# Altium footprint library pins.PcbLib: 69 footprints (part 4 of 5)
Each footprint in its own frame and in the unit in brackets; x right, y up, seen from the top. Pads: shape width x height; smd on the part's side, far side on the other; paste and mask are expansions set on the pad; w line width, h text height; cw(c..) or ccw(c..) is an arc to the next point about the centre after c.
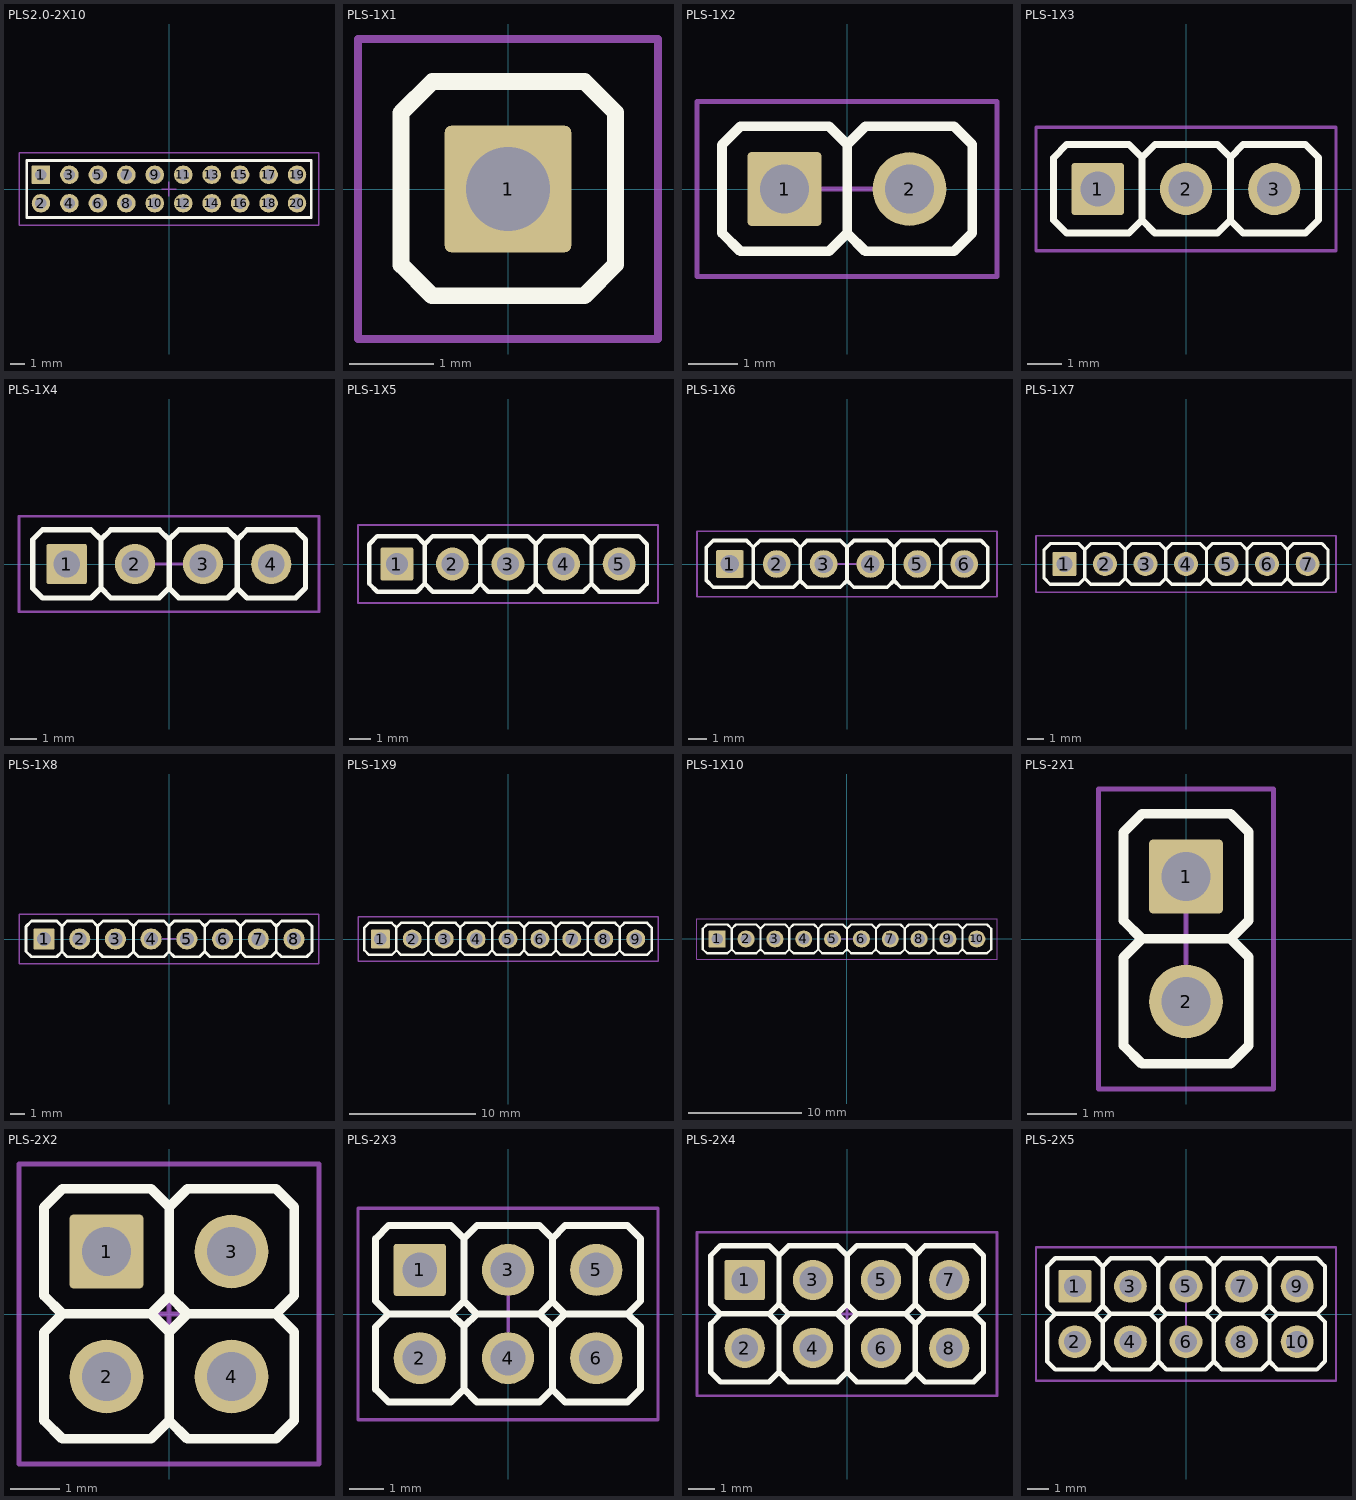
[diagram p3: the footprints below, top view; thin cyan lines are the x and y axes]

## PLS2.0-2X10 [mm]
pads (20):
  rrect10% 1.3x1.3 hole 0.8: 1(-9,1)
  round 1.3 hole 0.8: 2(-9,-1) 3(-7,1) 4(-7,-1) 5(-5,1) 6(-5,-1) 7(-3,1) 8(-3,-1) 9(-1,1) 10(-1,-1) 11(1,1) 12(1,-1) 13(3,1) 14(3,-1) 15(5,1) 16(5,-1) 17(7,1) 18(7,-1) 19(9,1) 20(9,-1)
Top Overlay:
  lines w0.2: -10,-2 -10,2 10,2 10,-2 -10,-2
Mechanical 13:
  lines w0.1: -10.541,-2.54 -10.541,2.54 10.541,2.54 10.541,-2.54 -10.541,-2.54
  text ".Designator" at -1.016,-0.762 h1.5
Mechanical 15:
  lines w0.05: -10.541,-2.54 -10.541,2.54 10.541,2.54 10.541,-2.54 -10.541,-2.54
  lines w0.1: -0.5,0 0.5,0 ; 0,-0.5 0,0.5
3D body: height 1, standoff 0, extent -10,-2 10,0
3D body: height 6.5, standoff -2.7, extent 8.746,0.746 9.254,1.254
3D body: height 6.5, standoff -2.7, extent 6.746,0.746 7.254,1.254
3D body: height 6.5, standoff -2.7, extent 4.746,0.746 5.254,1.254
3D body: height 6.5, standoff -2.7, extent 2.746,0.746 3.254,1.254
3D body: height 6.5, standoff -2.7, extent 0.746,0.746 1.254,1.254
3D body: height 6.5, standoff -2.7, extent -1.254,0.746 -0.746,1.254
3D body: height 6.5, standoff -2.7, extent -3.254,0.746 -2.746,1.254
3D body: height 6.5, standoff -2.7, extent -5.254,0.746 -4.746,1.254
3D body: height 6.5, standoff -2.7, extent -7.254,0.746 -6.746,1.254
3D body: height 6.5, standoff -2.7, extent -9.254,0.746 -8.746,1.254
3D body: height 1, standoff 0, extent -10,0 10,2
3D body: height 6.5, standoff -2.7, extent -9.254,-1.254 -8.746,-0.746
3D body: height 6.5, standoff -2.7, extent -7.254,-1.254 -6.746,-0.746
3D body: height 6.5, standoff -2.7, extent -5.254,-1.254 -4.746,-0.746
3D body: height 6.5, standoff -2.7, extent -3.254,-1.254 -2.746,-0.746
3D body: height 6.5, standoff -2.7, extent -1.254,-1.254 -0.746,-0.746
3D body: height 6.5, standoff -2.7, extent 0.746,-1.254 1.254,-0.746
3D body: height 6.5, standoff -2.7, extent 2.746,-1.254 3.254,-0.746
3D body: height 6.5, standoff -2.7, extent 4.746,-1.254 5.254,-0.746
3D body: height 6.5, standoff -2.7, extent 6.746,-1.254 7.254,-0.746
3D body: height 6.5, standoff -2.7, extent 8.746,-1.254 9.254,-0.746

## PLS-1X1 [mm]
pads (1):
  rrect10% 1.5x1.5 hole 1: 1(0,0)
Top Overlay:
  lines w0.2: -1.27,-0.9 -1.27,0.9 ; -1.27,-0.895 -0.9,-1.265 0.905,-1.265 1.275,-0.895 1.275,0.905 0.905,1.275 -0.895,1.275 -1.265,0.905
Mechanical 13:
  lines w0.1: -1.778,-1.778 -1.778,1.778 1.778,1.778 1.778,-1.778 -1.778,-1.778
  text ".Designator" at -1.016,-0.762 h1.5
Mechanical 15:
  lines w0.05: -1.778,-1.778 1.778,-1.778 1.778,1.778 -1.778,1.778 -1.778,-1.778
  lines w0.1: -0.498,0.005 0.502,0.005 ; 0.002,-0.495 0.002,0.505
3D body: height 8.5, standoff -3, extent -0.254,-0.254 0.254,0.254
3D body: height 2, standoff 0, extent -1.27,-1.265 1.275,1.275

## PLS-1X2 [mm]
pads (2):
  rrect10% 1.5x1.5 hole 1: 1(-1.27,0)
  round 1.5 hole 1: 2(1.27,0)
Top Overlay:
  lines w0.2: -2.54,-0.9 -2.54,0.9 ; -2.54,-0.895 -2.17,-1.265 -0.365,-1.265 0.005,-0.895 0.005,0.905 ; -2.535,0.905 -2.165,1.275 -0.365,1.275 0.005,0.905 ; 0,-0.895 0.37,-1.265 2.175,-1.265 2.545,-0.895 2.545,0.905 2.175,1.275 0.375,1.275 0.005,0.905
Mechanical 13:
  lines w0.1: -3.048,-1.778 3.048,-1.778 3.048,1.778 -3.048,1.778 -3.048,-1.778
  text ".Designator" at -1.016,-0.762 h1.5
Mechanical 15:
  lines w0.05: -3.048,-1.778 3.048,-1.778 3.048,1.778 -3.048,1.778 -3.048,-1.778
  lines w0.1: -0.495,0 0.505,0 ; 0.005,-0.5 0.005,0.5
3D body: height 2, standoff 0, extent 0,-1.265 2.545,1.275
3D body: height 2, standoff 0, extent -2.54,-1.265 0.005,1.275
3D body: height 8.5, standoff -3, extent -1.524,-0.254 -1.016,0.254
3D body: height 8.5, standoff -3, extent 1.016,-0.254 1.524,0.254

## PLS-1X3 [mm]
pads (3):
  rrect10% 1.5x1.5 hole 1: 1(-2.54,0)
  round 1.5 hole 1: 2(0,0) 3(2.54,0)
Top Overlay:
  lines w0.2: -3.81,-0.9 -3.81,0.9 ; -3.81,-0.895 -3.44,-1.265 -1.635,-1.265 -1.265,-0.895 -1.265,0.905 ; -3.805,0.905 -3.435,1.275 -1.635,1.275 -1.265,0.905 ; -1.27,-0.895 -0.9,-1.265 0.905,-1.265 1.275,-0.895 1.275,0.905 ; 1.27,-0.895 1.64,-1.265 3.445,-1.265 3.815,-0.895 3.815,0.905 3.445,1.275 1.645,1.275 1.275,0.905 ; -1.265,0.905 -0.895,1.275 0.905,1.275 1.275,0.905
Mechanical 13:
  lines w0.1: -4.318,-1.778 4.318,-1.778 4.318,1.778 -4.318,1.778 -4.318,-1.778
  text ".Designator" at -0.889,-0.762 h1.5
Mechanical 15:
  lines w0.05: -4.318,-1.778 4.318,-1.778 4.318,1.778 -4.318,1.778 -4.318,-1.778
  lines w0.1: -0.498,0.005 0.502,0.005 ; 0.002,-0.495 0.002,0.505
3D body: height 2, standoff 0, extent 1.27,-1.265 3.815,1.275
3D body: height 2, standoff 0, extent -1.27,-1.265 1.275,1.275
3D body: height 2, standoff 0, extent -3.81,-1.265 -1.265,1.275
3D body: height 8.5, standoff -3, extent 2.286,-0.254 2.794,0.254
3D body: height 8.5, standoff -3, extent -0.254,-0.254 0.254,0.254
3D body: height 8.5, standoff -3, extent -2.794,-0.254 -2.286,0.254

## PLS-1X4 [mm]
pads (4):
  rrect10% 1.5x1.5 hole 1: 1(-3.81,0)
  round 1.5 hole 1: 2(-1.27,0) 3(1.27,0) 4(3.81,0)
Top Overlay:
  lines w0.2: -5.08,-0.9 -5.08,0.9 ; -5.08,-0.895 -4.71,-1.265 -2.905,-1.265 -2.535,-0.895 -2.535,0.905 ; -5.075,0.905 -4.705,1.275 -2.905,1.275 -2.535,0.905 ; -2.54,-0.895 -2.17,-1.265 -0.365,-1.265 0.005,-0.895 0.005,0.905 ; 0,-0.895 0.37,-1.265 2.175,-1.265 2.545,-0.895 2.545,0.905 ; 2.54,-0.895 2.91,-1.265 4.715,-1.265 5.085,-0.895 5.085,0.905 4.715,1.275 2.915,1.275 2.545,0.905 ; -2.535,0.905 -2.165,1.275 -0.365,1.275 0.005,0.905 ; 0.005,0.905 0.375,1.275 2.175,1.275 2.545,0.905
Mechanical 13:
  lines w0.1: -5.588,-1.778 5.588,-1.778 5.588,1.778 -5.588,1.778 -5.588,-1.778
  text ".Designator" at -0.889,-0.762 h1.5
Mechanical 15:
  lines w0.05: -5.588,-1.778 5.588,-1.778 5.588,1.778 -5.588,1.778 -5.588,-1.778
  lines w0.1: -0.5,0.002 0.5,0.002 ; 0,-0.498 0,0.502
3D body: height 8.5, standoff -3, extent -4.064,-0.254 -3.556,0.254
3D body: height 8.5, standoff -3, extent -1.524,-0.254 -1.016,0.254
3D body: height 8.5, standoff -3, extent 1.016,-0.254 1.524,0.254
3D body: height 8.5, standoff -3, extent 3.556,-0.254 4.064,0.254
3D body: height 2, standoff 0, extent -2.54,-1.265 0.005,1.275
3D body: height 2, standoff 0, extent -5.08,-1.265 -2.535,1.275
3D body: height 2, standoff 0, extent 0,-1.265 2.545,1.275
3D body: height 2, standoff 0, extent 2.54,-1.265 5.085,1.275

## PLS-1X5 [mm]
pads (5):
  rrect10% 1.5x1.5 hole 1: 1(-5.08,0)
  round 1.5 hole 1: 2(-2.54,0) 3(0,0) 4(2.54,0) 5(5.08,0)
Top Overlay:
  lines w0.2: -6.35,-0.9 -6.35,0.9 ; -6.35,-0.895 -5.98,-1.265 -4.175,-1.265 -3.805,-0.895 -3.805,0.905 ; -6.345,0.905 -5.975,1.275 -4.175,1.275 -3.805,0.905 ; -3.81,-0.895 -3.44,-1.265 -1.635,-1.265 -1.265,-0.895 -1.265,0.905 ; -1.27,-0.895 -0.9,-1.265 0.905,-1.265 1.275,-0.895 1.275,0.905 ; 1.27,-0.895 1.64,-1.265 3.445,-1.265 3.815,-0.895 3.815,0.905 ; 3.81,-0.895 4.18,-1.265 5.985,-1.265 6.355,-0.895 6.355,0.905 5.985,1.275 4.185,1.275 3.815,0.905 ; -3.805,0.905 -3.435,1.275 -1.635,1.275 -1.265,0.905 ; -1.265,0.905 -0.895,1.275 0.905,1.275 1.275,0.905 ; 1.275,0.905 1.645,1.275 3.445,1.275 3.815,0.905
Mechanical 13:
  lines w0.1: -6.858,-1.778 -6.858,1.778 6.858,1.778 6.858,-1.778 -6.858,-1.778
  text ".Designator" at -0.889,-0.762 h1.5
Mechanical 15:
  lines w0.05: -6.858,-1.778 -6.858,1.778 6.858,1.778 6.858,-1.778 -6.858,-1.778
  lines w0.1: -0.498,0.005 0.502,0.005 ; 0.002,-0.495 0.002,0.505
3D body: height 2, standoff 0, extent 3.81,-1.265 6.355,1.275
3D body: height 2, standoff 0, extent 1.27,-1.265 3.815,1.275
3D body: height 2, standoff 0, extent -1.27,-1.265 1.275,1.275
3D body: height 2, standoff 0, extent -3.81,-1.265 -1.265,1.275
3D body: height 2, standoff 0, extent -6.35,-1.265 -3.805,1.275
3D body: height 8.5, standoff -3, extent 4.826,-0.254 5.334,0.254
3D body: height 8.5, standoff -3, extent 2.286,-0.254 2.794,0.254
3D body: height 8.5, standoff -3, extent -0.254,-0.254 0.254,0.254
3D body: height 8.5, standoff -3, extent -2.794,-0.254 -2.286,0.254
3D body: height 8.5, standoff -3, extent -5.334,-0.254 -4.826,0.254

## PLS-1X6 [mm]
pads (6):
  rrect10% 1.5x1.5 hole 1: 1(-6.35,0)
  round 1.5 hole 1: 2(-3.81,0) 3(-1.27,0) 4(1.27,0) 5(3.81,0) 6(6.35,0)
Top Overlay:
  lines w0.2: -7.62,-0.9 -7.62,0.9 ; -7.62,-0.895 -7.25,-1.265 -5.445,-1.265 -5.075,-0.895 -5.075,0.905 ; -7.615,0.905 -7.245,1.275 -5.445,1.275 -5.075,0.905 ; -5.08,-0.895 -4.71,-1.265 -2.905,-1.265 -2.535,-0.895 -2.535,0.905 ; -2.54,-0.895 -2.17,-1.265 -0.365,-1.265 0.005,-0.895 0.005,0.905 ; 0,-0.895 0.37,-1.265 2.175,-1.265 2.545,-0.895 2.545,0.905 ; 2.54,-0.895 2.91,-1.265 4.715,-1.265 5.085,-0.895 5.085,0.905 ; 5.08,-0.895 5.45,-1.265 7.255,-1.265 7.625,-0.895 7.625,0.905 7.255,1.275 5.455,1.275 5.085,0.905 ; -5.075,0.905 -4.705,1.275 -2.905,1.275 -2.535,0.905 ; -2.535,0.905 -2.165,1.275 -0.365,1.275 0.005,0.905 ; 0.005,0.905 0.375,1.275 2.175,1.275 2.545,0.905 ; 2.545,0.905 2.915,1.275 4.715,1.275 5.085,0.905
Mechanical 13:
  lines w0.1: -8.128,-1.778 -8.128,1.778 8.128,1.778 8.128,-1.778 -8.128,-1.778
  text ".Designator" at -0.889,-0.762 h1.5
Mechanical 15:
  lines w0.05: -8.128,-1.778 -8.128,1.778 8.128,1.778 8.128,-1.778 -8.128,-1.778
  lines w0.1: -0.495,0 0.505,0 ; 0.005,-0.5 0.005,0.5
3D body: height 2, standoff 0, extent 5.08,-1.265 7.625,1.275
3D body: height 2, standoff 0, extent 2.54,-1.265 5.085,1.275
3D body: height 2, standoff 0, extent 0,-1.265 2.545,1.275
3D body: height 2, standoff 0, extent -2.54,-1.265 0.005,1.275
3D body: height 2, standoff 0, extent -5.08,-1.265 -2.535,1.275
3D body: height 2, standoff 0, extent -7.62,-1.265 -5.075,1.275
3D body: height 8.5, standoff -3, extent 6.096,-0.254 6.604,0.254
3D body: height 8.5, standoff -3, extent 3.556,-0.254 4.064,0.254
3D body: height 8.5, standoff -3, extent 1.016,-0.254 1.524,0.254
3D body: height 8.5, standoff -3, extent -1.524,-0.254 -1.016,0.254
3D body: height 8.5, standoff -3, extent -4.064,-0.254 -3.556,0.254
3D body: height 8.5, standoff -3, extent -6.604,-0.254 -6.096,0.254

## PLS-1X7 [mm]
pads (7):
  rrect10% 1.5x1.5 hole 1: 1(-7.62,0)
  round 1.5 hole 1: 2(-5.08,0) 3(-2.54,0) 4(0,0) 5(2.54,0) 6(5.08,0) 7(7.62,0)
Top Overlay:
  lines w0.2: -8.89,-0.9 -8.89,0.9 ; -8.89,-0.895 -8.52,-1.265 -6.715,-1.265 -6.345,-0.895 -6.345,0.905 ; -8.885,0.905 -8.515,1.275 -6.715,1.275 -6.345,0.905 ; -6.35,-0.895 -5.98,-1.265 -4.175,-1.265 -3.805,-0.895 -3.805,0.905 ; -3.81,-0.895 -3.44,-1.265 -1.635,-1.265 -1.265,-0.895 -1.265,0.905 ; -1.27,-0.895 -0.9,-1.265 0.905,-1.265 1.275,-0.895 1.275,0.905 ; 1.27,-0.895 1.64,-1.265 3.445,-1.265 3.815,-0.895 3.815,0.905 ; 3.81,-0.895 4.18,-1.265 5.985,-1.265 6.355,-0.895 6.355,0.905 ; 6.35,-0.895 6.72,-1.265 8.525,-1.265 8.895,-0.895 8.895,0.905 8.525,1.275 6.725,1.275 6.355,0.905 ; -6.345,0.905 -5.975,1.275 -4.175,1.275 -3.805,0.905 ; -3.805,0.905 -3.435,1.275 -1.635,1.275 -1.265,0.905 ; -1.265,0.905 -0.895,1.275 0.905,1.275 1.275,0.905 ; 1.275,0.905 1.645,1.275 3.445,1.275 3.815,0.905 ; 3.815,0.905 4.185,1.275 5.985,1.275 6.355,0.905
Mechanical 13:
  lines w0.1: -9.398,-1.778 9.398,-1.778 9.398,1.778 -9.398,1.778 -9.398,-1.778
  text ".Designator" at -0.762,-0.762 h1.5
Mechanical 15:
  lines w0.05: -9.398,-1.778 9.398,-1.778 9.398,1.778 -9.398,1.778 -9.398,-1.778
  lines w0.1: -0.498,0.005 0.502,0.005 ; 0.002,-0.495 0.002,0.505
3D body: height 8.5, standoff -3, extent -7.874,-0.254 -7.366,0.254
3D body: height 8.5, standoff -3, extent -5.334,-0.254 -4.826,0.254
3D body: height 8.5, standoff -3, extent -2.794,-0.254 -2.286,0.254
3D body: height 8.5, standoff -3, extent -0.254,-0.254 0.254,0.254
3D body: height 8.5, standoff -3, extent 2.286,-0.254 2.794,0.254
3D body: height 8.5, standoff -3, extent 4.826,-0.254 5.334,0.254
3D body: height 8.5, standoff -3, extent 7.366,-0.254 7.874,0.254
3D body: height 2, standoff 0, extent -8.89,-1.265 -6.345,1.275
3D body: height 2, standoff 0, extent -6.35,-1.265 -3.805,1.275
3D body: height 2, standoff 0, extent -3.81,-1.265 -1.265,1.275
3D body: height 2, standoff 0, extent -1.27,-1.265 1.275,1.275
3D body: height 2, standoff 0, extent 1.27,-1.265 3.815,1.275
3D body: height 2, standoff 0, extent 3.81,-1.265 6.355,1.275
3D body: height 2, standoff 0, extent 6.35,-1.265 8.895,1.275

## PLS-1X8 [mm]
pads (8):
  rrect10% 1.5x1.5 hole 1: 1(-8.89,0)
  round 1.5 hole 1: 2(-6.35,0) 3(-3.81,0) 4(-1.27,0) 5(1.27,0) 6(3.81,0) 7(6.35,0) 8(8.89,0)
Top Overlay:
  lines w0.2: -10.16,-0.9 -10.16,0.9 ; -10.16,-0.895 -9.79,-1.265 -7.985,-1.265 -7.615,-0.895 -7.615,0.905 ; -10.155,0.905 -9.785,1.275 -7.985,1.275 -7.615,0.905 ; -7.62,-0.895 -7.25,-1.265 -5.445,-1.265 -5.075,-0.895 -5.075,0.905 ; -5.08,-0.895 -4.71,-1.265 -2.905,-1.265 -2.535,-0.895 -2.535,0.905 ; -2.54,-0.895 -2.17,-1.265 -0.365,-1.265 0.005,-0.895 0.005,0.905 ; 0,-0.895 0.37,-1.265 2.175,-1.265 2.545,-0.895 2.545,0.905 ; 2.54,-0.895 2.91,-1.265 4.715,-1.265 5.085,-0.895 5.085,0.905 ; 5.08,-0.895 5.45,-1.265 7.255,-1.265 7.625,-0.895 7.625,0.905 ; 7.62,-0.895 7.99,-1.265 9.795,-1.265 10.165,-0.895 10.165,0.905 9.795,1.275 7.995,1.275 7.625,0.905 ; -7.615,0.905 -7.245,1.275 -5.445,1.275 -5.075,0.905 ; -5.075,0.905 -4.705,1.275 -2.905,1.275 -2.535,0.905 ; -2.535,0.905 -2.165,1.275 -0.365,1.275 0.005,0.905 ; 0.005,0.905 0.375,1.275 2.175,1.275 2.545,0.905 ; 2.545,0.905 2.915,1.275 4.715,1.275 5.085,0.905 ; 5.085,0.905 5.455,1.275 7.255,1.275 7.625,0.905
Mechanical 13:
  lines w0.1: -10.668,-1.778 10.668,-1.778 10.668,1.778 -10.668,1.778 -10.668,-1.778
  text ".Designator" at -0.762,-0.762 h1.5
Mechanical 15:
  lines w0.05: -10.668,-1.778 10.668,-1.778 10.668,1.778 -10.668,1.778 -10.668,-1.778
  lines w0.1: -0.495,0.005 0.505,0.005 ; 0.005,-0.495 0.005,0.505
3D body: height 8.5, standoff -3, extent -9.144,-0.254 -8.636,0.254
3D body: height 8.5, standoff -3, extent -6.604,-0.254 -6.096,0.254
3D body: height 8.5, standoff -3, extent -4.064,-0.254 -3.556,0.254
3D body: height 8.5, standoff -3, extent -1.524,-0.254 -1.016,0.254
3D body: height 8.5, standoff -3, extent 1.016,-0.254 1.524,0.254
3D body: height 8.5, standoff -3, extent 3.556,-0.254 4.064,0.254
3D body: height 8.5, standoff -3, extent 6.096,-0.254 6.604,0.254
3D body: height 8.5, standoff -3, extent 8.636,-0.254 9.144,0.254
3D body: height 2, standoff 0, extent -7.62,-1.265 -5.075,1.275
3D body: height 2, standoff 0, extent -10.16,-1.265 -7.615,1.275
3D body: height 2, standoff 0, extent -5.08,-1.265 -2.535,1.275
3D body: height 2, standoff 0, extent -2.54,-1.265 0.005,1.275
3D body: height 2, standoff 0, extent 0,-1.265 2.545,1.275
3D body: height 2, standoff 0, extent 2.54,-1.265 5.085,1.275
3D body: height 2, standoff 0, extent 5.08,-1.265 7.625,1.275
3D body: height 2, standoff 0, extent 7.62,-1.265 10.165,1.275

## PLS-1X9 [mm]
pads (9):
  rrect10% 1.5x1.5 hole 1: 1(-10.16,0)
  round 1.5 hole 1: 2(-7.62,0) 3(-5.08,0) 4(-2.54,0) 5(0,0) 6(2.54,0) 7(5.08,0) 8(7.62,0) 9(10.16,0)
Top Overlay:
  lines w0.2: -11.43,-0.9 -11.43,0.9 ; -11.43,-0.895 -11.06,-1.265 -9.255,-1.265 -8.885,-0.895 -8.885,0.905 ; -11.425,0.905 -11.055,1.275 -9.255,1.275 -8.885,0.905 ; -8.89,-0.895 -8.52,-1.265 -6.715,-1.265 -6.345,-0.895 -6.345,0.905 ; -6.35,-0.895 -5.98,-1.265 -4.175,-1.265 -3.805,-0.895 -3.805,0.905 ; -3.81,-0.895 -3.44,-1.265 -1.635,-1.265 -1.265,-0.895 -1.265,0.905 ; -1.27,-0.895 -0.9,-1.265 0.905,-1.265 1.275,-0.895 1.275,0.905 ; 1.27,-0.895 1.64,-1.265 3.445,-1.265 3.815,-0.895 3.815,0.905 ; 3.81,-0.895 4.18,-1.265 5.985,-1.265 6.355,-0.895 6.355,0.905 ; 6.35,-0.895 6.72,-1.265 8.525,-1.265 8.895,-0.895 8.895,0.905 ; 8.89,-0.895 9.26,-1.265 11.065,-1.265 11.435,-0.895 11.435,0.905 11.065,1.275 9.265,1.275 8.895,0.905 ; -8.885,0.905 -8.515,1.275 -6.715,1.275 -6.345,0.905 ; -6.345,0.905 -5.975,1.275 -4.175,1.275 -3.805,0.905 ; -3.805,0.905 -3.435,1.275 -1.635,1.275 -1.265,0.905 ; -1.265,0.905 -0.895,1.275 0.905,1.275 1.275,0.905 ; 1.275,0.905 1.645,1.275 3.445,1.275 3.815,0.905 ; 3.815,0.905 4.185,1.275 5.985,1.275 6.355,0.905 ; 6.355,0.905 6.725,1.275 8.525,1.275 8.895,0.905
Mechanical 13:
  lines w0.1: -11.938,-1.778 11.938,-1.778 11.938,1.778 -11.938,1.778 -11.938,-1.778
  text ".Designator" at -0.762,-0.762 h1.5
Mechanical 15:
  lines w0.05: -11.938,-1.778 11.938,-1.778 11.938,1.778 -11.938,1.778 -11.938,-1.778
  lines w0.1: -0.5,0 0.5,0 ; 0,-0.5 0,0.5
3D body: height 8.5, standoff -3, extent -10.414,-0.254 -9.906,0.254
3D body: height 8.5, standoff -3, extent -7.874,-0.254 -7.366,0.254
3D body: height 8.5, standoff -3, extent -5.334,-0.254 -4.826,0.254
3D body: height 8.5, standoff -3, extent -2.794,-0.254 -2.286,0.254
3D body: height 8.5, standoff -3, extent -0.254,-0.254 0.254,0.254
3D body: height 8.5, standoff -3, extent 2.286,-0.254 2.794,0.254
3D body: height 8.5, standoff -3, extent 4.826,-0.254 5.334,0.254
3D body: height 8.5, standoff -3, extent 7.366,-0.254 7.874,0.254
3D body: height 8.5, standoff -3, extent 9.906,-0.254 10.414,0.254
3D body: height 2, standoff 0, extent -11.43,-1.265 -8.885,1.275
3D body: height 2, standoff 0, extent -8.89,-1.265 -6.345,1.275
3D body: height 2, standoff 0, extent -6.35,-1.265 -3.805,1.275
3D body: height 2, standoff 0, extent -3.81,-1.265 -1.265,1.275
3D body: height 2, standoff 0, extent -1.27,-1.265 1.275,1.275
3D body: height 2, standoff 0, extent 1.27,-1.265 3.815,1.275
3D body: height 2, standoff 0, extent 3.81,-1.265 6.355,1.275
3D body: height 2, standoff 0, extent 6.35,-1.265 8.895,1.275
3D body: height 2, standoff 0, extent 8.89,-1.265 11.435,1.275

## PLS-1X10 [mm]
pads (10):
  rrect10% 1.5x1.5 hole 1: 1(-11.43,0)
  round 1.5 hole 1: 2(-8.89,0) 3(-6.35,0) 4(-3.81,0) 5(-1.27,0) 6(1.27,0) 7(3.81,0) 8(6.35,0) 9(8.89,0) 10(11.43,0)
Top Overlay:
  lines w0.2: -12.7,-0.9 -12.7,0.9 ; -12.7,-0.895 -12.33,-1.265 -10.525,-1.265 -10.155,-0.895 -10.155,0.905 ; -12.695,0.905 -12.325,1.275 -10.525,1.275 -10.155,0.905 ; -10.16,-0.895 -9.79,-1.265 -7.985,-1.265 -7.615,-0.895 -7.615,0.905 ; -7.62,-0.895 -7.25,-1.265 -5.445,-1.265 -5.075,-0.895 -5.075,0.905 ; -5.08,-0.895 -4.71,-1.265 -2.905,-1.265 -2.535,-0.895 -2.535,0.905 ; -2.54,-0.895 -2.17,-1.265 -0.365,-1.265 0.005,-0.895 0.005,0.905 ; 0,-0.895 0.37,-1.265 2.175,-1.265 2.545,-0.895 2.545,0.905 ; 2.54,-0.895 2.91,-1.265 4.715,-1.265 5.085,-0.895 5.085,0.905 ; 5.08,-0.895 5.45,-1.265 7.255,-1.265 7.625,-0.895 7.625,0.905 ; 7.62,-0.895 7.99,-1.265 9.795,-1.265 10.165,-0.895 10.165,0.905 ; 10.16,-0.895 10.53,-1.265 12.335,-1.265 12.705,-0.895 12.705,0.905 12.335,1.275 10.535,1.275 10.165,0.905 ; -10.155,0.905 -9.785,1.275 -7.985,1.275 -7.615,0.905 ; -7.615,0.905 -7.245,1.275 -5.445,1.275 -5.075,0.905 ; -5.075,0.905 -4.705,1.275 -2.905,1.275 -2.535,0.905 ; -2.535,0.905 -2.165,1.275 -0.365,1.275 0.005,0.905 ; 0.005,0.905 0.375,1.275 2.175,1.275 2.545,0.905 ; 2.545,0.905 2.915,1.275 4.715,1.275 5.085,0.905 ; 5.085,0.905 5.455,1.275 7.255,1.275 7.625,0.905 ; 7.625,0.905 7.995,1.275 9.795,1.275 10.165,0.905
Mechanical 13:
  lines w0.1: -13.208,-1.778 13.208,-1.778 13.208,1.778 -13.208,1.778 -13.208,-1.778
  text ".Designator" at -0.762,-0.762 h1.5
Mechanical 15:
  lines w0.05: -13.208,-1.778 13.208,-1.778 13.208,1.778 -13.208,1.778 -13.208,-1.778
  lines w0.1: -0.5,0.002 0.5,0.002 ; 0,-0.498 0,0.502
3D body: height 8.5, standoff -3, extent 11.176,-0.254 11.684,0.254
3D body: height 8.5, standoff -3, extent 8.636,-0.254 9.144,0.254
3D body: height 8.5, standoff -3, extent 6.096,-0.254 6.604,0.254
3D body: height 8.5, standoff -3, extent 3.556,-0.254 4.064,0.254
3D body: height 8.5, standoff -3, extent 1.016,-0.254 1.524,0.254
3D body: height 8.5, standoff -3, extent -1.524,-0.254 -1.016,0.254
3D body: height 8.5, standoff -3, extent -4.064,-0.254 -3.556,0.254
3D body: height 8.5, standoff -3, extent -6.604,-0.254 -6.096,0.254
3D body: height 8.5, standoff -3, extent -9.144,-0.254 -8.636,0.254
3D body: height 8.5, standoff -3, extent -11.684,-0.254 -11.176,0.254
3D body: height 2, standoff 0, extent -12.7,-1.265 -10.155,1.275
3D body: height 2, standoff 0, extent -10.16,-1.265 -7.615,1.275
3D body: height 2, standoff 0, extent -7.62,-1.265 -5.075,1.275
3D body: height 2, standoff 0, extent -5.08,-1.265 -2.535,1.275
3D body: height 2, standoff 0, extent -2.54,-1.265 0.005,1.275
3D body: height 2, standoff 0, extent 0,-1.265 2.545,1.275
3D body: height 2, standoff 0, extent 2.54,-1.265 5.085,1.275
3D body: height 2, standoff 0, extent 5.08,-1.265 7.625,1.275
3D body: height 2, standoff 0, extent 7.62,-1.265 10.165,1.275
3D body: height 2, standoff 0, extent 10.16,-1.265 12.705,1.275

## PLS-2X1 [mm]
pads (2):
  rrect10% 1.5x1.5 hole 1: 1(0,1.27)
  round 1.5 hole 1: 2(0,-1.27)
Top Overlay:
  lines w0.2: -1.27,-2.17 -1.27,-0.37 ; -1.27,-2.165 -0.9,-2.535 0.905,-2.535 1.275,-2.165 1.275,-0.365 0.905,0.005 ; -1.27,0.37 -1.27,2.17 ; -1.27,0.375 -0.9,0.005 0.905,0.005 ; -1.265,-0.365 -0.895,0.005 ; -1.265,2.175 -0.895,2.545 0.905,2.545 1.275,2.175 1.275,0.375 0.905,0.005
Mechanical 13:
  lines w0.1: -1.778,-3.048 1.778,-3.048 1.778,3.048 -1.778,3.048 -1.778,-3.048
  text ".Designator" at -1.016,-0.762 h1.5
Mechanical 15:
  lines w0.05: -1.778,-3.048 -1.778,3.048 1.778,3.048 1.778,-3.048 -1.778,-3.048
  lines w0.1: -0.5,0.005 0.5,0.005 ; 0,-0.495 0,0.505
3D body: height 2, standoff 0, extent -1.27,-2.535 1.275,0.005
3D body: height 2, standoff 0, extent -1.27,0.005 1.275,2.545
3D body: height 8.5, standoff -3, extent -0.254,-1.524 0.254,-1.016
3D body: height 8.5, standoff -3, extent -0.254,1.016 0.254,1.524

## PLS-2X2 [mm]
pads (4):
  rrect10% 1.5x1.5 hole 1: 1(-1.27,1.27)
  round 1.5 hole 1: 2(-1.27,-1.27) 3(1.27,1.27) 4(1.27,-1.27)
Top Overlay:
  lines w0.2: -2.54,-2.17 -2.54,-0.37 ; -2.54,-2.165 -2.17,-2.535 -0.365,-2.535 0.005,-2.165 0.005,-0.365 ; -2.54,0.37 -2.54,2.17 ; -2.54,0.375 -2.17,0.005 -0.365,0.005 ; -2.535,-0.365 -2.165,0.005 ; -2.535,2.175 -2.165,2.545 -0.365,2.545 0.005,2.175 ; 0,-2.165 0.37,-2.535 2.175,-2.535 2.545,-2.165 2.545,-0.365 2.175,0.005 ; 0,0.375 0.37,0.005 2.175,0.005 ; 0.375,0.005 0.005,-0.365 ; -0.365,0.005 0.005,-0.365 ; -0.365,0.005 0.005,0.375 0.005,2.175 ; 0.005,2.175 0.375,2.545 2.175,2.545 2.545,2.175 2.545,0.375 2.175,0.005
Mechanical 13:
  lines w0.1: -3.048,-3.048 3.048,-3.048 3.048,3.048 -3.048,3.048 -3.048,-3.048
  text ".Designator" at -1.016,-0.889 h1.8
Mechanical 15:
  lines w0.05: -3.048,-3.048 -3.048,3.048 3.048,3.048 3.048,-3.048 -3.048,-3.048
  lines w0.1: -0.5,0 0.5,0 ; 0,-0.5 0,0.5
3D body: height 8.5, standoff -3, extent -1.524,1.016 -1.016,1.524
3D body: height 8.5, standoff -3, extent 1.016,1.016 1.524,1.524
3D body: height 8.5, standoff -3, extent -1.524,-1.524 -1.016,-1.016
3D body: height 8.5, standoff -3, extent 1.016,-1.524 1.524,-1.016
3D body: height 2, standoff 0, extent -2.54,0.005 0.005,2.545
3D body: height 2, standoff 0, extent -2.54,-2.535 0.005,0.005
3D body: height 2, standoff 0, extent 0,-2.535 2.545,0.005
3D body: height 2, standoff 0, extent 0,0.005 2.545,2.545

## PLS-2X3 [mm]
pads (6):
  rrect10% 1.5x1.5 hole 1: 1(-2.54,1.27)
  round 1.5 hole 1: 2(-2.54,-1.27) 3(0,1.27) 4(0,-1.27) 5(2.54,1.27) 6(2.54,-1.27)
Top Overlay:
  lines w0.2: -3.81,-2.17 -3.81,-0.37 ; -3.81,-2.165 -3.44,-2.535 -1.635,-2.535 -1.265,-2.165 -1.265,-0.365 ; -3.81,0.37 -3.81,2.17 ; -3.81,0.375 -3.44,0.005 -1.635,0.005 ; -3.805,-0.365 -3.435,0.005 ; -3.805,2.175 -3.435,2.545 -1.635,2.545 -1.265,2.175 ; -1.27,-2.165 -0.9,-2.535 0.905,-2.535 1.275,-2.165 1.275,-0.365 ; -1.27,0.375 -0.9,0.005 0.905,0.005 ; -0.895,0.005 -1.265,-0.365 ; 1.27,-2.165 1.64,-2.535 3.445,-2.535 3.815,-2.165 3.815,-0.365 3.445,0.005 ; 1.27,0.375 1.64,0.005 3.445,0.005 ; 1.645,0.005 1.275,-0.365 ; -1.635,0.005 -1.265,-0.365 ; -1.635,0.005 -1.265,0.375 -1.265,2.175 ; -1.265,2.175 -0.895,2.545 0.905,2.545 1.275,2.175 ; 0.905,0.005 1.275,-0.365 ; 0.905,0.005 1.275,0.375 1.275,2.175 ; 1.275,2.175 1.645,2.545 3.445,2.545 3.815,2.175 3.815,0.375 3.445,0.005
Mechanical 13:
  lines w0.1: -4.318,-3.048 -4.318,3.048 4.318,3.048 4.318,-3.048 -4.318,-3.048
  text ".Designator" at -0.889,-0.889 h1.8
Mechanical 15:
  lines w0.05: -4.318,-3.048 4.318,-3.048 4.318,3.048 -4.318,3.048 -4.318,-3.048
  lines w0.1: -0.498,0.005 0.502,0.005 ; 0.002,-0.495 0.002,0.505
3D body: height 2, standoff 0, extent -3.81,-2.535 -1.265,0.005
3D body: height 2, standoff 0, extent -1.27,-2.535 1.275,0.005
3D body: height 2, standoff 0, extent 1.27,-2.535 3.815,0.005
3D body: height 2, standoff 0, extent 1.27,0.005 3.815,2.545
3D body: height 2, standoff 0, extent -1.27,0.005 1.275,2.545
3D body: height 2, standoff 0, extent -3.81,0.005 -1.265,2.545
3D body: height 8.5, standoff -3, extent 2.286,-1.524 2.794,-1.016
3D body: height 8.5, standoff -3, extent -0.254,-1.524 0.254,-1.016
3D body: height 8.5, standoff -3, extent -2.794,-1.524 -2.286,-1.016
3D body: height 8.5, standoff -3, extent 2.286,1.016 2.794,1.524
3D body: height 8.5, standoff -3, extent -0.254,1.016 0.254,1.524
3D body: height 8.5, standoff -3, extent -2.794,1.016 -2.286,1.524

## PLS-2X4 [mm]
pads (8):
  rrect10% 1.5x1.5 hole 1: 1(-3.81,1.27)
  round 1.5 hole 1: 2(-3.81,-1.27) 3(-1.27,1.27) 4(-1.27,-1.27) 5(1.27,1.27) 6(1.27,-1.27) 7(3.81,1.27) 8(3.81,-1.27)
Top Overlay:
  lines w0.2: -5.08,-2.17 -5.08,-0.37 ; -5.08,-2.165 -4.71,-2.535 -2.905,-2.535 -2.535,-2.165 -2.535,-0.365 ; -5.08,0.37 -5.08,2.17 ; -5.08,0.375 -4.71,0.005 -2.905,0.005 ; -5.075,-0.365 -4.705,0.005 ; -5.075,2.175 -4.705,2.545 -2.905,2.545 -2.535,2.175 ; -2.54,-2.165 -2.17,-2.535 -0.365,-2.535 0.005,-2.165 0.005,-0.365 ; -2.54,0.375 -2.17,0.005 -0.365,0.005 ; -2.165,0.005 -2.535,-0.365 ; 0,-2.165 0.37,-2.535 2.175,-2.535 2.545,-2.165 2.545,-0.365 ; 0,0.375 0.37,0.005 2.175,0.005 ; 0.375,0.005 0.005,-0.365 ; 2.54,-2.165 2.91,-2.535 4.715,-2.535 5.085,-2.165 5.085,-0.365 4.715,0.005 ; 2.54,0.375 2.91,0.005 4.715,0.005 ; 2.915,0.005 2.545,-0.365 ; -2.905,0.005 -2.535,-0.365 ; -2.905,0.005 -2.535,0.375 -2.535,2.175 ; -2.535,2.175 -2.165,2.545 -0.365,2.545 0.005,2.175 ; -0.365,0.005 0.005,-0.365 ; -0.365,0.005 0.005,0.375 0.005,2.175 ; 0.005,2.175 0.375,2.545 2.175,2.545 2.545,2.175 ; 2.175,0.005 2.545,-0.365 ; 2.175,0.005 2.545,0.375 2.545,2.175 ; 2.545,2.175 2.915,2.545 4.715,2.545 5.085,2.175 5.085,0.375 4.715,0.005
Mechanical 13:
  lines w0.1: -5.588,-3.048 -5.588,3.048 5.588,3.048 5.588,-3.048 -5.588,-3.048
  text ".Designator" at -0.889,-0.889 h1.8
Mechanical 15:
  lines w0.05: -5.588,-3.048 5.588,-3.048 5.588,3.048 -5.588,3.048 -5.588,-3.048
  lines w0.1: -0.5,0 0.5,0 ; 0,-0.5 0,0.5
3D body: height 8.5, standoff -3, extent -4.064,1.016 -3.556,1.524
3D body: height 8.5, standoff -3, extent -1.524,1.016 -1.016,1.524
3D body: height 8.5, standoff -3, extent 1.016,1.016 1.524,1.524
3D body: height 8.5, standoff -3, extent 3.556,1.016 4.064,1.524
3D body: height 8.5, standoff -3, extent -4.064,-1.524 -3.556,-1.016
3D body: height 8.5, standoff -3, extent -1.524,-1.524 -1.016,-1.016
3D body: height 8.5, standoff -3, extent 1.016,-1.524 1.524,-1.016
3D body: height 8.5, standoff -3, extent 3.556,-1.524 4.064,-1.016
3D body: height 2, standoff 0, extent -5.08,0.005 -2.535,2.545
3D body: height 2, standoff 0, extent -2.54,0.005 0.005,2.545
3D body: height 2, standoff 0, extent 0,0.005 2.545,2.545
3D body: height 2, standoff 0, extent 2.54,0.005 5.085,2.545
3D body: height 2, standoff 0, extent 2.54,-2.535 5.085,0.005
3D body: height 2, standoff 0, extent 0,-2.535 2.545,0.005
3D body: height 2, standoff 0, extent -2.54,-2.535 0.005,0.005
3D body: height 2, standoff 0, extent -5.08,-2.535 -2.535,0.005

## PLS-2X5 [mm]
pads (10):
  rrect10% 1.5x1.5 hole 1: 1(-5.08,1.27)
  round 1.5 hole 1: 2(-5.08,-1.27) 3(-2.54,1.27) 4(-2.54,-1.27) 5(0,1.27) 6(0,-1.27) 7(2.54,1.27) 8(2.54,-1.27) 9(5.08,1.27) 10(5.08,-1.27)
Top Overlay:
  lines w0.2: -6.35,-2.17 -6.35,-0.37 ; -6.35,-2.165 -5.98,-2.535 -4.175,-2.535 -3.805,-2.165 -3.805,-0.365 ; -6.35,0.37 -6.35,2.17 ; -6.35,0.375 -5.98,0.005 -4.175,0.005 ; -6.345,-0.365 -5.975,0.005 ; -6.345,2.175 -5.975,2.545 -4.175,2.545 -3.805,2.175 ; -3.81,-2.165 -3.44,-2.535 -1.635,-2.535 -1.265,-2.165 -1.265,-0.365 ; -3.81,0.375 -3.44,0.005 -1.635,0.005 ; -3.435,0.005 -3.805,-0.365 ; -1.27,-2.165 -0.9,-2.535 0.905,-2.535 1.275,-2.165 1.275,-0.365 ; -1.27,0.375 -0.9,0.005 0.905,0.005 ; -0.895,0.005 -1.265,-0.365 ; 1.27,-2.165 1.64,-2.535 3.445,-2.535 3.815,-2.165 3.815,-0.365 ; 1.27,0.375 1.64,0.005 3.445,0.005 ; 1.645,0.005 1.275,-0.365 ; 3.81,-2.165 4.18,-2.535 5.985,-2.535 6.355,-2.165 6.355,-0.365 5.985,0.005 ; 3.81,0.375 4.18,0.005 5.985,0.005 ; 4.185,0.005 3.815,-0.365 ; -4.175,0.005 -3.805,0.375 -3.805,2.175 ; -4.175,0.005 -3.805,-0.365 ; -3.805,2.175 -3.435,2.545 -1.635,2.545 -1.265,2.175 ; -1.635,0.005 -1.265,0.375 -1.265,2.175 ; -1.635,0.005 -1.265,-0.365 ; -1.265,2.175 -0.895,2.545 0.905,2.545 1.275,2.175 ; 0.905,0.005 1.275,0.375 1.275,2.175 ; 0.905,0.005 1.275,-0.365 ; 1.275,2.175 1.645,2.545 3.445,2.545 3.815,2.175 ; 3.445,0.005 3.815,0.375 3.815,2.175 ; 3.445,0.005 3.815,-0.365 ; 3.815,2.175 4.185,2.545 5.985,2.545 6.355,2.175 6.355,0.375 5.985,0.005
Mechanical 13:
  lines w0.1: -6.858,-3.048 6.858,-3.048 6.858,3.048 -6.858,3.048 -6.858,-3.048
  text ".Designator" at -0.889,-0.889 h1.8
Mechanical 15:
  lines w0.05: -6.858,-3.048 -6.858,3.048 6.858,3.048 6.858,-3.048 -6.858,-3.048
  lines w0.1: -0.498,0.005 0.502,0.005 ; 0.002,-0.495 0.002,0.505
3D body: height 2, standoff 0, extent -6.35,-2.535 -3.805,0.005
3D body: height 2, standoff 0, extent -3.81,-2.535 -1.265,0.005
3D body: height 2, standoff 0, extent -1.27,-2.535 1.275,0.005
3D body: height 2, standoff 0, extent 1.27,-2.535 3.815,0.005
3D body: height 2, standoff 0, extent 3.81,-2.535 6.355,0.005
3D body: height 2, standoff 0, extent 3.81,0.005 6.355,2.545
3D body: height 2, standoff 0, extent 1.27,0.005 3.815,2.545
3D body: height 2, standoff 0, extent -1.27,0.005 1.275,2.545
3D body: height 2, standoff 0, extent -3.81,0.005 -1.265,2.545
3D body: height 2, standoff 0, extent -6.35,0.005 -3.805,2.545
3D body: height 8.5, standoff -3, extent -5.334,1.016 -4.826,1.524
3D body: height 8.5, standoff -3, extent -2.794,1.016 -2.286,1.524
3D body: height 8.5, standoff -3, extent -0.254,1.016 0.254,1.524
3D body: height 8.5, standoff -3, extent 2.286,1.016 2.794,1.524
3D body: height 8.5, standoff -3, extent 4.826,1.016 5.334,1.524
3D body: height 8.5, standoff -3, extent -5.334,-1.524 -4.826,-1.016
3D body: height 8.5, standoff -3, extent -2.794,-1.524 -2.286,-1.016
3D body: height 8.5, standoff -3, extent -0.254,-1.524 0.254,-1.016
3D body: height 8.5, standoff -3, extent 2.286,-1.524 2.794,-1.016
3D body: height 8.5, standoff -3, extent 4.826,-1.524 5.334,-1.016